# Altium schematic symbol library TOTUDU.SCHLIB: 34 symbols
Pins are listed as number, name and electrical type; pins without a type are passive.

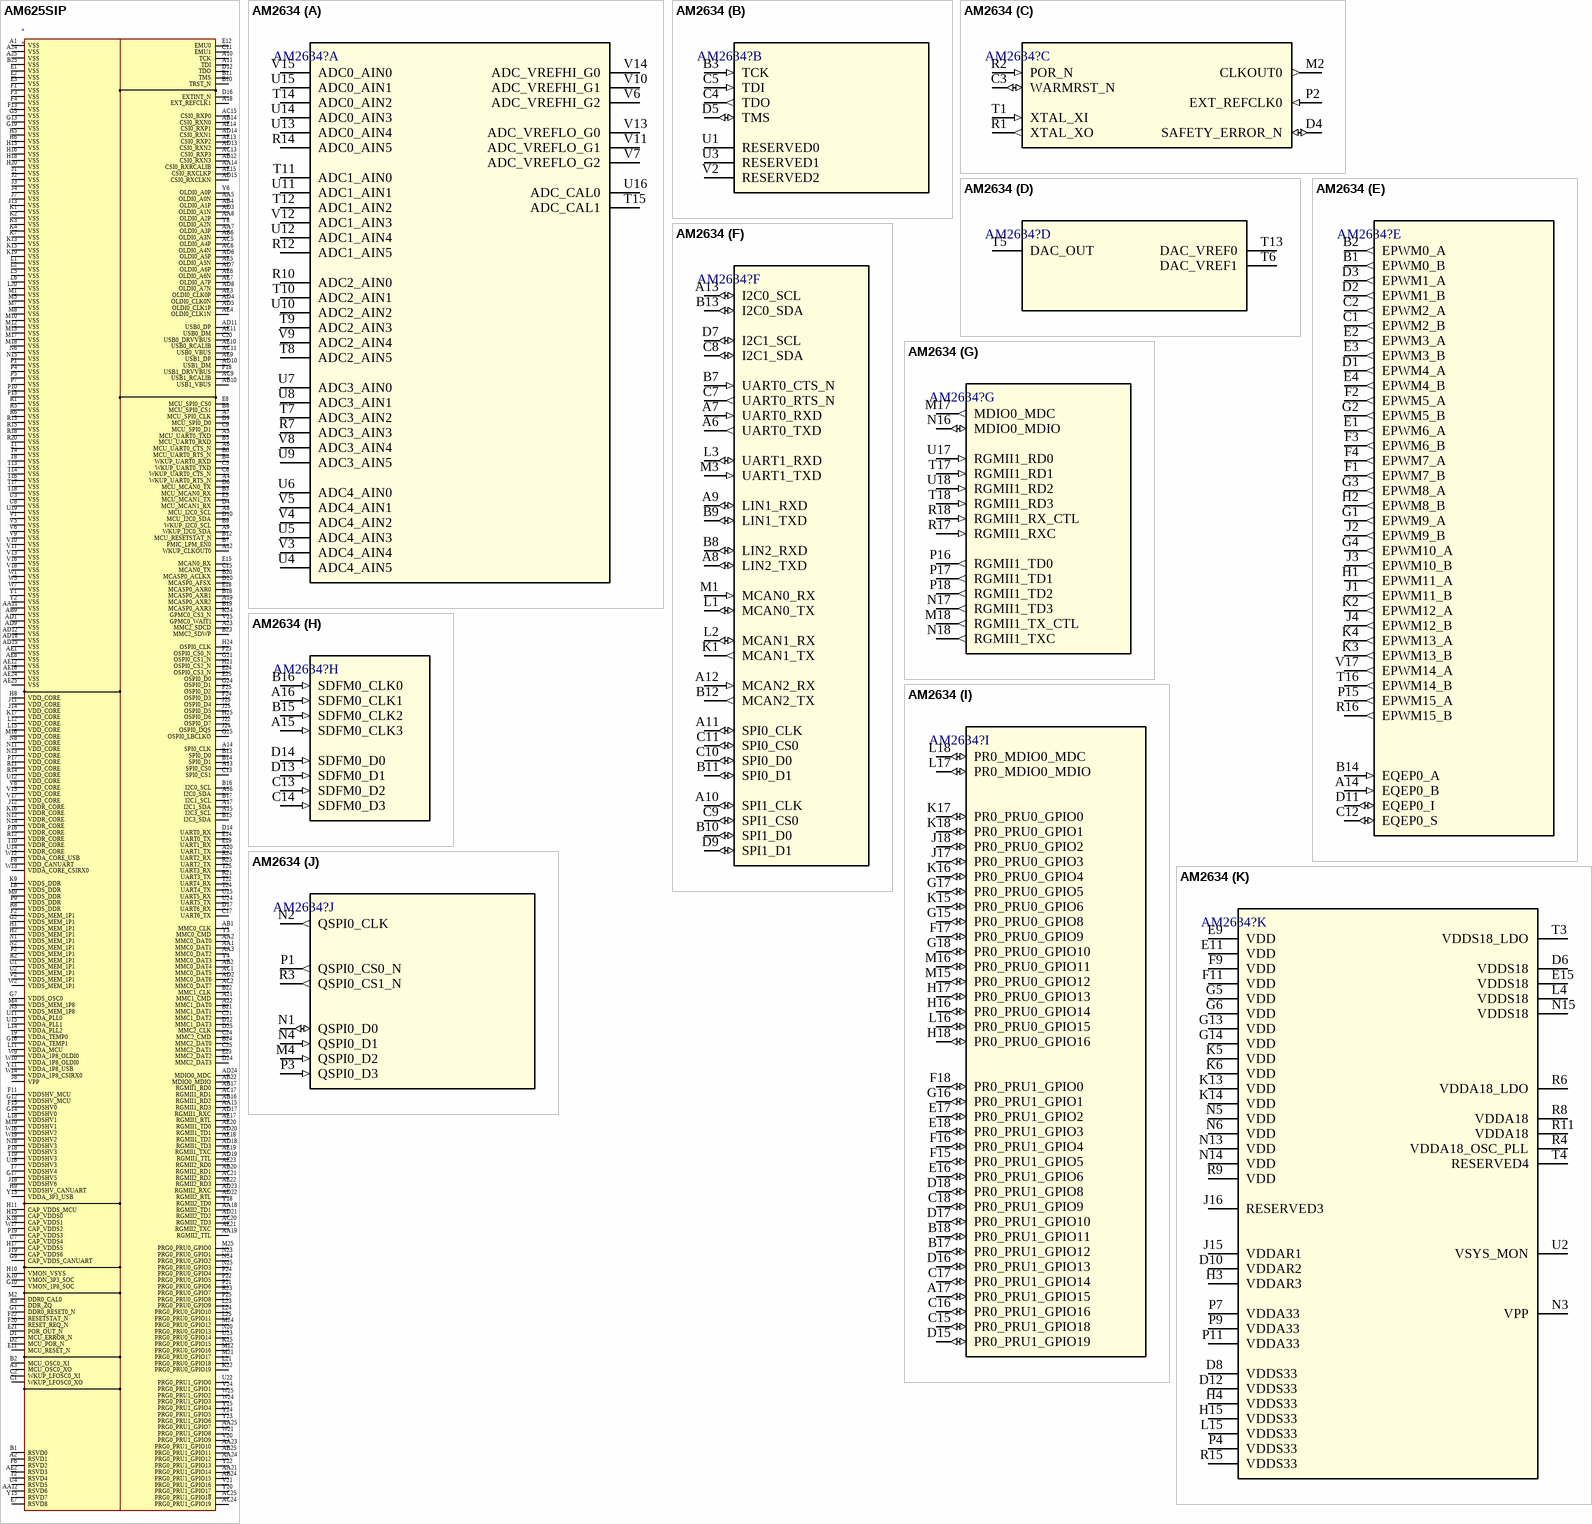
[diagram p0: symbols AM625SIP to AM2634]

## AM625SIP
designator *
footprint AM625SIP
pins: A1 VSS, A2 RSVD1, A3 MCU_OSC0_XO, A4 WKUP_UART0_RTS_N, A5 MCU_UART0_TXD, A6 MCU_UART0_CTS_N, A7 MCU_SPI0_CLK, A8 MCU_I2C0_SCL, A9 WKUP_I2C0_SDA, A10 TCK, A11 TDI, A12 WKUP_CLKOUT0, A13 SPI0_CS0, A14 SPI0_CLK, A15 I2C3_SCL, A16 I2C0_SDA, A17 I2C1_SDA, A18 EXT_REFCLK1, A19 MCASP0_AXR2, A20 UART1_TX, A21 MMC1_CMD, A22 MMC1_DAT0, A23 MMC2_SDCD, A24 VSS, A25 VSS, AA1 MMC0_DAT1, AA2 MMC0_DAT0, AA3 MMC0_DAT2, AA5 OLDI0_A0N, AA7 OLDI0_A3P, AA8 OLDI0_A2P, AA11 VSS, AA12 RSVD6, AA14 CSI0_RXRCALIB, AA15 RGMII1_RD3, AA18 RGMII2_TD1, AA19 RGMII2_TTL, AA21 PRG0_PRU1_GPIO14, AA23 PRG0_PRU1_GPIO10, AA24 PRG0_PRU1_GPIO12, AA25 PRG0_PRU1_GPIO7, AB1 MMC0_CLK, AB2 MMC0_DAT4, AB4 OLDI0_A1P, AB6 OLDI0_A3N, AB9 VSS, AB10 USB1_VBUS, AB12 CSI0_RXN3, AB14 CSI0_RXN0, AB16 RGMII1_RD2, AB17 RGMII1_RD0, AB20 RGMII2_RD1, AB22 MDIO0_MDIO, AB24 PRG0_PRU1_GPIO15, AB25 PRG0_PRU1_GPIO11, AC1 MMC0_DAT5, AC2 MMC0_DAT7, AC5 OLDI0_A4P, AC6 OLDI0_A4N, AC9 USB1_RCALIB, AC11 USB0_VBUS, AC13 CSI0_RXP3, AC15 CSI0_RXP0, AC17 RGMII1_RD1, AC20 RGMII2_TD3, AC21 RGMII2_RD2, AC24 PRG0_PRU1_GPIO19, AC25 PRG0_PRU1_GPIO1~{8}, AD1 VSS, AD2 MMC0_DAT6, AD3 OLDI0_A1N, AD4 OLDI0_CLK0N, AD5 OLDI0_CLK1P, AD6 OLDI0_A5P, AD7 OLDI0_A6P, AD8 OLDI0_A7N, AD9 VSS, AD10 USB1_DM, AD11 USB0_DP, AD12 VSS, AD13 CSI0_RXN2, AD14 CSI0_RXN1, AD15 CSI0_RXCLKN, AD16 VSS, AD17 RGMII1_RXC, AD18 RGMII1_TD3, AD19 RGMII1_TTL, AD20 RGMII1_TD1, AD21 RGMII2_TD2, AD22 RGMII2_RTL, AD23 RGMII2_RXC, AD24 MDIO0_MDC, AD25 VSS, AE1 VSS, AE2 RSVD3, AE3 OLDI0_CLK0P, AE4 OLDI0_CLK1N, AE5 OLDI0_A5N, AE6 OLDI0_A6N, AE7 OLDI0_A7P, AE8 VSS, AE9 USB1_DP, AE10 USB0_RCALIB, AE11 USB0_DM, AE12 VSS, AE13 CSI0_RXP2, AE14 CSI0_RXP1, AE15 CSI0_RXCLKP, AE16 VSS, AE17 RGMII1_RTL, AE18 RGMII1_TD2, AE19 RGMII1_TXC, AE20 RGMII1_TD0, AE21 RGMII2_TXC, AE22 RGMII2_RD3, AE23 RGMII2_RD0, AE24 VSS, AE25 VSS, B1 RSVD0, B2 MCU_OSC0_XI, B3 MCU_MCAN0_RX, B4 WKUP_UART0_RXD, B5 MCU_UART0_RXD, B6 MCU_UART0_RTS_N, B7 PMIC_LPM_EN0, B8 MCU_SPI0_CS1, B9 WKUP_I2C0_SCL, B10 TRST_N, B11 TMS, B12 MCU_RESETSTAT_N, B13 SPI0_D0, B14 SPI0_D1, B15 I2C3_SDA, B16 I2C0_SCL, B17 I2C1_SCL, B18 MCASP0_AXR1, B19 MCASP0_AXR3, B20 MCASP0_ACLKX, B21 MMC1_DAT1, B22 MMC1_CLK, B23 MMC2_SDWP, B24 MMC2_DAT0, B25 VSS, C1 WKUP_LFOSC0_XO, C2 WKUP_LFOSC0_XI, C5 WKUP_UART0_TXD, C6 WKUP_UART0_CTS_N, C9 MCU_SPI0_D1, C11 EMU1, C13 SPI0_CS1, C15 MCAN0_TX, C17 UART6_TX, C20 USB0_DRVVBUS, C21 MMC1_DAT2, C24 MMC2_CMD, C25 MMC2_DAT1, D1 MCU_ERROR_N, D2 MCU_POR_N, D4 MCU_MCAN1_RX, D6 MCU_MCAN0_TX, D9 MCU_SPI0_D0, D10 MCU_I2C0_SDA, D12 TDO, D14 UART0_RX, D16 EXTINT_N, D17 UART6_RX, D20 MCASP0_AFSX, D22 MMC1_DAT3, D24 MMC2_DAT3, D25 MMC2_CLK, E1 VSS, E2 VSS, E3 VSS, E5 MCU_MCAN1_TX, E7 RSVD8, E8 MCU_SPI0_CS0, E11 MCU_RESET_N, E12 EMU0, E14 UART0_TX, E15 MCAN0_RX, E18 MCASP0_AXR0, E19 UART1_RX, E21 POR_OUT_N, E23 MMC2_DAT2, E24 OSPI0_CS3_N, E25 OSPI0_D0, F1 VSS, F2 VDDS_MEM_1P1, F3 VSS, F4 VSS, F6 RSVD2, F8 VDD_CANUART, F11 VDDSHV_MCU, F13 VSS, F15 VDDSHV0, F18 USB1_DRVVBUS, F20 RESET_REQ_N, F22 RESETSTAT_N, F23 OSPI0_CS0_N, F24 OSPI0_D3, F25 OSPI0_D2, G1 DDR0_RESET0_N, G2 VDDS_MEM_1P1, G5 VSS, G7 VDDS_OSC0, G9 CAP_VDDS_CANUART, G10 VMON_1P8_SOC, G12 VDDSHV_MCU, G13 VSS, G14 VDDSHV0, G16 VDDA_TEMP1, G17 VDDSHV5, G19 VSS, G21 OSPI0_CS1_N, G24 OSPI0_D1, G25 OSPI0_LBCLKO, H1 VDDS_MEM_1P1, H2 VDDS_MEM_1P1, H5 VSS, H6 VSS, H8 VDD_CORE, H9 VDDSHV_CANUART, H10 VMON_VSYS, H11 CAP_VDDS_MCU, H13 VSS, H15 CAP_VDDS0, H16 VSS, H17 CAP_VDDS5, H18 VSS, H20 VSS, H21 OSPI0_CS2_N, H24 OSPI0_CLK, H25 OSPI0_D6, J1 VSS, J2 VSS, J3 VSS, J4 VSS, J7 VSS, J8 VPP, J11 VDD_CORE, J12 VDDR_CORE, J13 VSS, J14 VDD_CORE, J18 VDDSHV6, J19 CAP_VDDS6, J22 OSPI0_D7, J23 OSPI0_D4, J24 OSPI0_DQS, J25 OSPI0_D5, K1 VSS, K2 VSS, K3 VSS, K4 VSS, K7 VSS, K9 VDDS_DDR, K10 VMON_3P3_SOC, K13 VSS, K15 VSS, K16 VDDR_CORE, K17 VDD_CORE, K18 CAP_VDDS1, K19 VSS, K22 PRG0_PRU0_GPIO19, K24 GPMC0_CS3_N, K25 PRG0_PRU0_GPIO15, L1 VSS, L2 VSS, L5 VSS, L6 VSS, L8 VDDS_DDR, L11 VDDA_MCU, L12 VDD_CORE, L14 VDDA_PLL2, L15 VDD_CORE, L18 VDDSHV1, L20 VSS, L21 PRG0_PRU0_GPIO18, L23 PRG0_PRU0_GPIO9, L24 PRG0_PRU0_GPIO10, L25 PRG0_PRU0_GPIO11, M1 VSS, M2 DDR0_CAL0, M4 VDDS_MEM_1P8, M5 VSS, M7 VSS, M8 VSS, M9 VDDS_DDR, M10 VSS, M12 VSS, M13 VSS, M16 VDD_CORE, M17 VSS, M18 VSS, M19 VDDSHV1, M21 PRG0_PRU0_GPIO17, M22 PRG0_PRU0_GPIO16, M24 PRG0_PRU0_GPIO12, M25 PRG0_PRU0_GPIO0, N1 VDDS_MEM_1P1, N2 VDDS_MEM_1P1, N3 VDDS_MEM_1P8, N6 VSS, N8 VDD_CORE, N11 VDD_CORE, N12 VDDR_CORE, N13 VDD_CORE, N14 VDDR_CORE, N15 VSS, N18 VDDSHV3, N20 PRG0_PRU0_GPIO13, N23 PRG0_PRU0_GPIO1, N24 PRG0_PRU0_GPIO2, N25 PRG0_PRU0_GPIO3, P1 VSS, P2 VDDS_MEM_1P1, P4 VSS, P5 VSS, P7 VSS, P9 VDDS_DDR, P10 VSS, P13 VSS, P16 VDDR_CORE, P17 VDD_CORE, P18 VDDSHV3, P19 CAP_VDDS3, P21 PRG0_PRU0_GPIO6, P22 PRG0_PRU0_GPIO5, P24 PRG0_PRU0_GPIO4, P25 PRG0_PRU0_GPIO8, R1 VSS, R2 VDDS_MEM_1P1, R3 DDR_ZQ, R5 VSS, R6 VSS, R8 VDDS_DDR, R11 VDD_CORE, R12 VDDR_CORE, R13 VSS, R14 VDD_CORE, R15 VSS, R18 VSS, R20 VSS, R21 UART3_TX, R23 PRG0_PRU0_GPIO7, R24 UART2_RX, R25 UART2_TX, T1 VSS, T2 RSVD4, T4 VSS, T7 VDDSHV4, T8 VSS, T9 VDDA_TEMP0, T10 VDDR_CORE, T13 VSS, T14 VSS, T16 VSS, T17 VSS, T18 VSS, T19 VDDSHV3, T22 UART4_RX, T24 UART4_TX, T25 UART3_RX, U1 VDDS_MEM_1P1, U2 VDDS_MEM_1P1, U3 VSS, U4 RSVD5, U7 CAP_VDDS4, U8 VSS, U11 VDDA_PLL0, U12 VDD_CORE, U14 VDDR_CORE, U15 VDDA_PLL1, U18 VDDSHV3, U19 VSS, U22 PRG0_PRU1_GPIO0, U23 PRG0_PRU0_GPIO14, U24 UART5_TX, U25 UART5_RX, V1 VSS, V2 VDDS_MEM_1P1, V5 VSS, V6 VSS, V8 VDD_CORE, V9 VSS, V10 VSS, V11 VSS, V13 VSS, V15 VDD_CORE, V16 VSS, V17 VDD_CORE, V18 VSS, V20 PRG0_PRU1_GPIO9, V21 PRG0_PRU1_GPIO16, V24 PRG0_PRU1_GPIO1, V25 GPMC0_WAIT1, W1 VSS, W2 VDDS_MEM_1P1, W5 VSS, W7 VSS, W9 VDDA_1P8_OLDI0, W10 VDDA_1P8_OLDI0, W12 VDDA_CORE_USB, W13 VDDA_CORE_CSIRX0, W14 VDDA_1P8_CSIRX0, W16 VDDSHV2, W17 CAP_VDDS2, W19 VDDSHV2, W21 PRG0_PRU1_GPIO8, W24 PRG0_PRU1_GPIO3, W25 PRG0_PRU1_GPIO2, Y1 VSS, Y2 VSS, Y3 MMC0_CMD, Y4 MMC0_DAT3, Y6 OLDI0_A0P, Y8 OLDI0_A2N, Y11 VDDA_1P8_USB, Y13 VDDA_3P3_USB, Y15 RSVD7, Y18 RGMII2_TD0, Y20 PRG0_PRU1_GPIO17, Y22 PRG0_PRU1_GPIO13, Y23 PRG0_PRU1_GPIO6, Y24 PRG0_PRU1_GPIO5, Y25 PRG0_PRU1_GPIO4

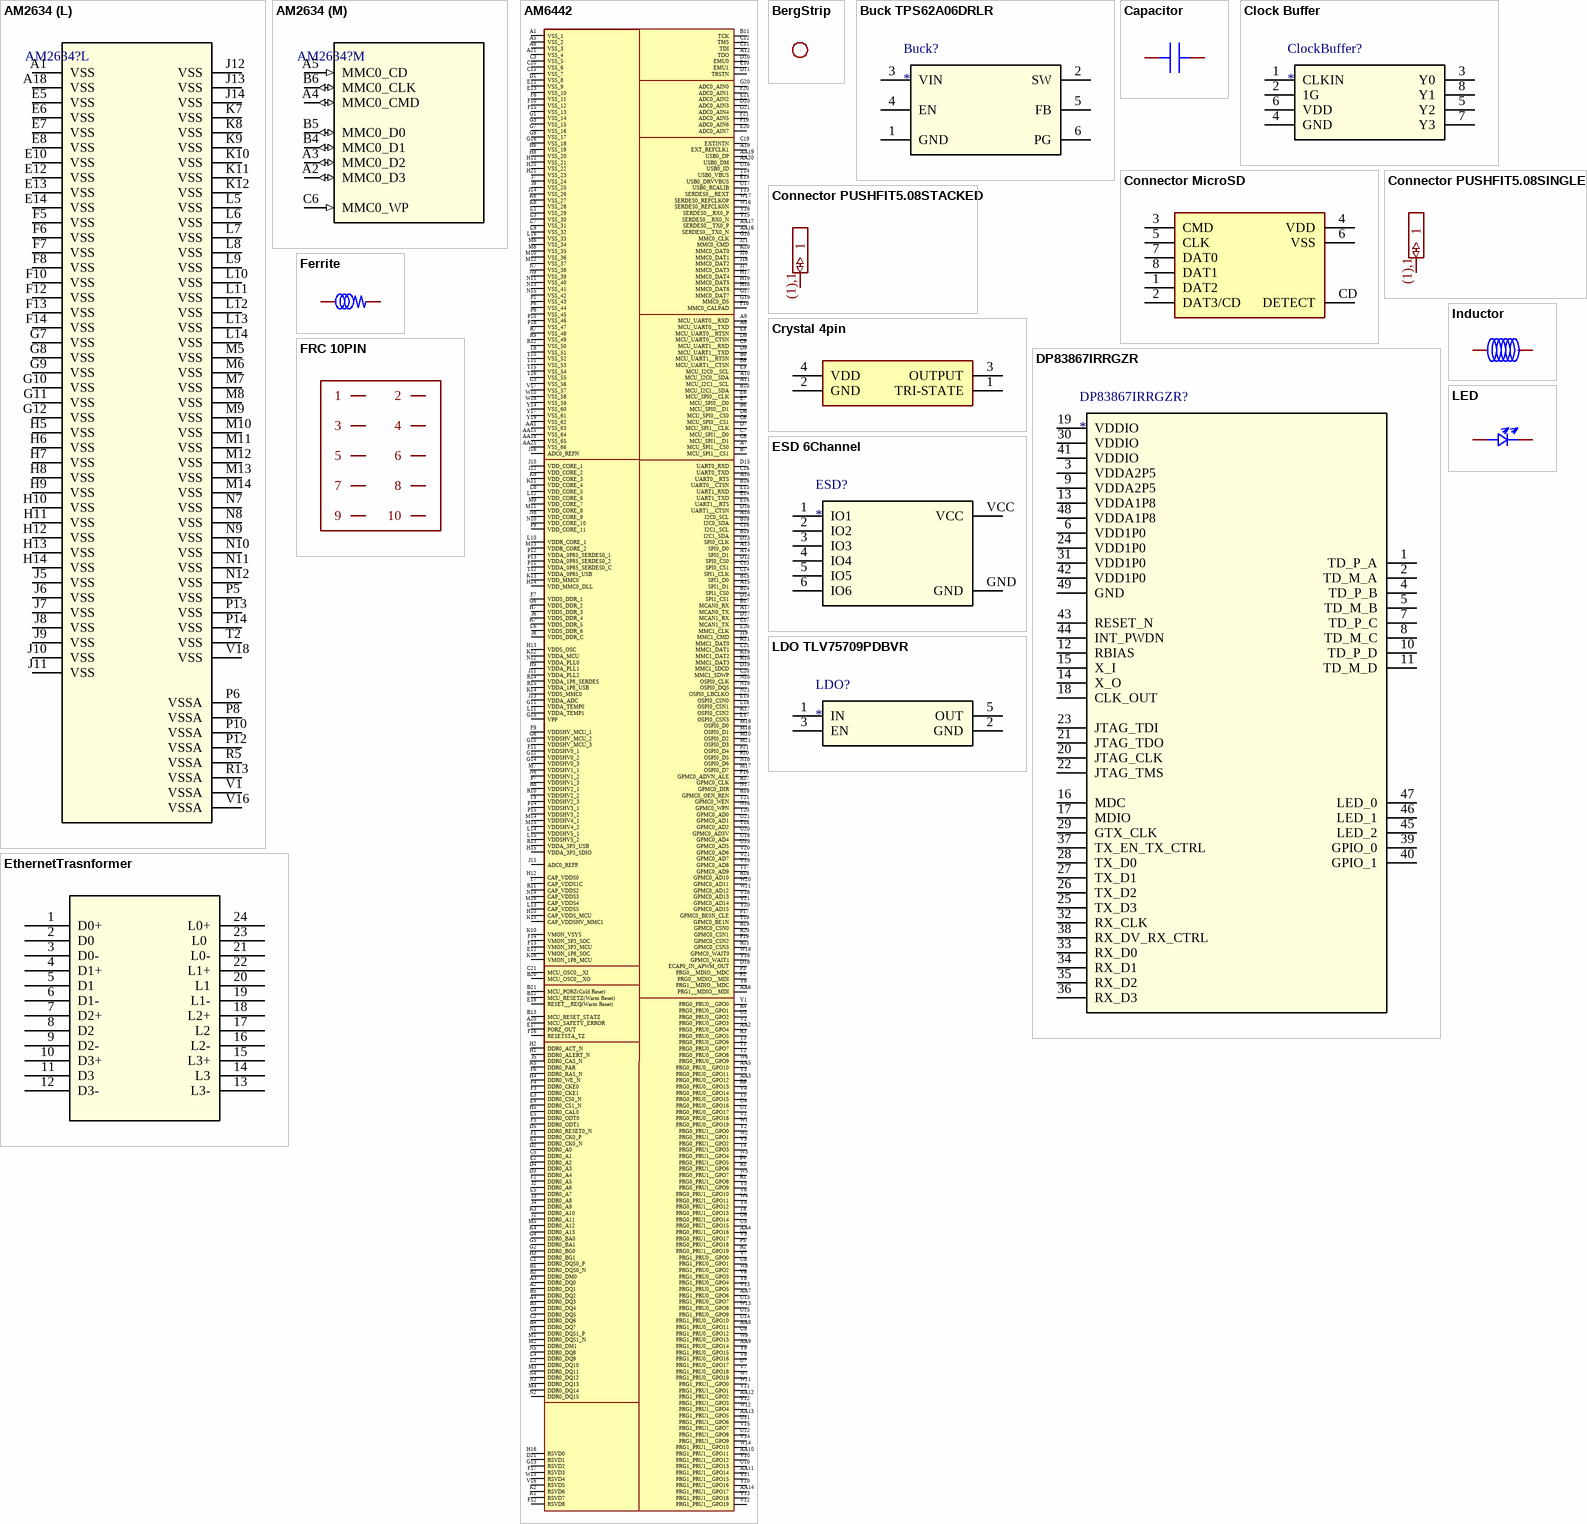
[diagram p1: symbols AM2634 to LED]

## AM2634
designator AM2634?
Mfr_Name: Texas Instruments; TYPE: TYPE; RefDes: RefDes
footprint AM2634
part A pins: R7 ADC3_AIN3, R10 ADC2_AIN0, R12 ADC1_AIN5, R14 ADC0_AIN5, T7 ADC3_AIN2, T8 ADC2_AIN5, T9 ADC2_AIN3, T10 ADC2_AIN1, T11 ADC1_AIN0, T12 ADC1_AIN2, T14 ADC0_AIN2, T15 ADC_CAL1, U4 ADC4_AIN5, U5 ADC4_AIN3, U6 ADC4_AIN0, U7 ADC3_AIN0, U8 ADC3_AIN1, U9 ADC3_AIN5, U10 ADC2_AIN2, U11 ADC1_AIN1, U12 ADC1_AIN4, U13 ADC0_AIN4, U14 ADC0_AIN3, U15 ADC0_AIN1, U16 ADC_CAL0, V3 ADC4_AIN4, V4 ADC4_AIN2, V5 ADC4_AIN1, V6 ADC_VREFHI_G2, V7 ADC_VREFLO_G2, V8 ADC3_AIN4, V9 ADC2_AIN4, V10 ADC_VREFHI_G1, V11 ADC_VREFLO_G1, V12 ADC1_AIN3, V13 ADC_VREFLO_G0, V14 ADC_VREFHI_G0, V15 ADC0_AIN0
part B pins: B3 TCK (in), C4 TDO (out), C5 TDI (in), D5 TMS (io), U1 RESERVED0, U3 RESERVED1, V2 RESERVED2
part C pins: C3 WARMRST_N (io), D4 SAFETY_ERROR_N (io), M2 CLKOUT0 (out), P2 EXT_REFCLK0 (in), R1 XTAL_XO (out), R2 POR_N (in), T1 XTAL_XI (in)
part D pins: T5 DAC_OUT, T6 DAC_VREF1, T13 DAC_VREF0
part E pins: A14 EQEP0_B (in), B1 EPWM0_B (out), B2 EPWM0_A (out), B14 EQEP0_A (in), C1 EPWM2_B (out), C2 EPWM2_A (out), C12 EQEP0_S (io), D1 EPWM4_A (out), D2 EPWM1_B (out), D3 EPWM1_A (out), D11 EQEP0_I (io), E1 EPWM6_A (out), E2 EPWM3_A (out), E3 EPWM3_B (out), E4 EPWM4_B (out), F1 EPWM7_B (out), F2 EPWM5_A (out), F3 EPWM6_B (out), F4 EPWM7_A (out), G1 EPWM9_A (out), G2 EPWM5_B (out), G3 EPWM8_A (out), G4 EPWM10_A (out), H1 EPWM11_A (out), H2 EPWM8_B (out), J1 EPWM11_B (out), J2 EPWM9_B (out), J3 EPWM10_B (out), J4 EPWM12_B (out), K2 EPWM12_A (out), K3 EPWM13_B (out), K4 EPWM13_A (out), P15 EPWM15_A (out), R16 EPWM15_B (out), T16 EPWM14_B (out), V17 EPWM14_A (out)
part F pins: A6 UART0_TXD (out), A7 UART0_RXD (in), A8 LIN2_TXD (io), A9 LIN1_RXD (io), A10 SPI1_CLK (io), A11 SPI0_CLK (io), A12 MCAN2_RX (in), A13 I2C0_SCL (io), B7 UART0_CTS_N (in), B8 LIN2_RXD (io), B9 LIN1_TXD (io), B10 SPI1_D0 (io), B11 SPI0_D1 (io), B12 MCAN2_TX (out), B13 I2C0_SDA (io), C7 UART0_RTS_N (out), C8 I2C1_SDA (io), C9 SPI1_CS0 (io), C10 SPI0_D0 (io), C11 SPI0_CS0 (io), D7 I2C1_SCL (io), D9 SPI1_D1 (io), K1 MCAN1_TX (out), L1 MCAN0_TX (io), L2 MCAN1_RX (io), L3 UART1_RXD (io), M1 MCAN0_RX (in), M3 UART1_TXD (in)
part G pins: M17 MDIO0_MDC (out), M18 RGMII1_TX_CTL (out), N16 MDIO0_MDIO (io), N17 RGMII1_TD3 (out), N18 RGMII1_TXC (out), P16 RGMII1_TD0 (out), P17 RGMII1_TD1 (out), P18 RGMII1_TD2 (out), R17 RGMII1_RXC (in), R18 RGMII1_RX_CTL (in), T17 RGMII1_RD1 (in), T18 RGMII1_RD3 (in), U17 RGMII1_RD0 (in), U18 RGMII1_RD2 (in)
part H pins: A15 SDFM0_CLK3 (in), A16 SDFM0_CLK1 (in), B15 SDFM0_CLK2 (in), B16 SDFM0_CLK0 (in), C13 SDFM0_D2 (in), C14 SDFM0_D3 (in), D13 SDFM0_D1 (in), D14 SDFM0_D0 (in)
part I pins: A17 PR0_PRU1_GPIO15 (io), B17 PR0_PRU1_GPIO12 (io), B18 PR0_PRU1_GPIO11 (io), C15 PR0_PRU1_GPIO18 (io), C16 PR0_PRU1_GPIO16 (io), C17 PR0_PRU1_GPIO14 (io), C18 PR0_PRU1_GPIO9 (io), D15 PR0_PRU1_GPIO19 (io), D16 PR0_PRU1_GPIO13 (io), D17 PR0_PRU1_GPIO10 (io), D18 PR0_PRU1_GPIO8 (io), E16 PR0_PRU1_GPIO6 (io), E17 PR0_PRU1_GPIO2 (io), E18 PR0_PRU1_GPIO3 (io), F15 PR0_PRU1_GPIO5 (io), F16 PR0_PRU1_GPIO4 (io), F17 PR0_PRU0_GPIO9 (io), F18 PR0_PRU1_GPIO0 (io), G15 PR0_PRU0_GPIO8 (io), G16 PR0_PRU1_GPIO1 (io), G17 PR0_PRU0_GPIO5 (io), G18 PR0_PRU0_GPIO10 (io), H16 PR0_PRU0_GPIO14 (io), H17 PR0_PRU0_GPIO13 (io), H18 PR0_PRU0_GPIO16 (io), J17 PR0_PRU0_GPIO3 (io), J18 PR0_PRU0_GPIO2 (io), K15 PR0_PRU0_GPIO6 (io), K16 PR0_PRU0_GPIO4 (io), K17 PR0_PRU0_GPIO0 (io), K18 PR0_PRU0_GPIO1 (io), L16 PR0_PRU0_GPIO15 (io), L17 PR0_MDIO0_MDIO (io), L18 PR0_MDIO0_MDC (io), M15 PR0_PRU0_GPIO12 (io), M16 PR0_PRU0_GPIO11 (io)
part J pins: M4 QSPI0_D2 (in), N1 QSPI0_D0 (io), N2 QSPI0_CLK (out), N4 QSPI0_D1 (in), P1 QSPI0_CS0_N (out), P3 QSPI0_D3 (in), R3 QSPI0_CS1_N (out)
part K pins: D6 VDDS18 (power), D8 VDDS33 (power), D10 VDDAR2 (power), D12 VDDS33 (power), E9 VDD (power), E11 VDD (power), E15 VDDS18 (power), F9 VDD (power), F11 VDD (power), G5 VDD (power), G6 VDD (power), G13 VDD (power), G14 VDD (power), H3 VDDAR3 (power), H4 VDDS33 (power), H15 VDDS33 (power), J15 VDDAR1 (power), J16 RESERVED3, K5 VDD (power), K6 VDD (power), K13 VDD (power), K14 VDD (power), L4 VDDS18 (power), L15 VDDS33 (power), N3 VPP (power), N5 VDD (power), N6 VDD (power), N13 VDD (power), N14 VDD (power), N15 VDDS18 (power), P4 VDDS33 (power), P7 VDDA33 (power), P9 VDDA33 (power), P11 VDDA33 (power), R4 VDDA18_OSC_PLL (power), R6 VDDA18_LDO (power), R8 VDDA18 (power), R9 VDD (power), R11 VDDA18 (power), R15 VDDS33 (power), T3 VDDS18_LDO (power), T4 RESERVED4, U2 VSYS_MON (power)
part L pins: A1 VSS (power), A18 VSS (power), E5 VSS (power), E6 VSS (power), E7 VSS (power), E8 VSS (power), E10 VSS (power), E12 VSS (power), E13 VSS (power), E14 VSS (power), F5 VSS (power), F6 VSS (power), F7 VSS (power), F8 VSS (power), F10 VSS (power), F12 VSS (power), F13 VSS (power), F14 VSS (power), G7 VSS (power), G8 VSS (power), G9 VSS (power), G10 VSS (power), G11 VSS (power), G12 VSS (power), H5 VSS (power), H6 VSS (power), H7 VSS (power), H8 VSS (power), H9 VSS (power), H10 VSS (power), H11 VSS (power), H12 VSS (power), H13 VSS (power), H14 VSS (power), J5 VSS (power), J6 VSS (power), J7 VSS (power), J8 VSS (power), J9 VSS (power), J10 VSS (power), J11 VSS (power), J12 VSS (power), J13 VSS (power), J14 VSS (power), K7 VSS (power), K8 VSS (power), K9 VSS (power), K10 VSS (power), K11 VSS (power), K12 VSS (power), L5 VSS (power), L6 VSS (power), L7 VSS (power), L8 VSS (power), L9 VSS (power), L10 VSS (power), L11 VSS (power), L12 VSS (power), L13 VSS (power), L14 VSS (power), M5 VSS (power), M6 VSS (power), M7 VSS (power), M8 VSS (power), M9 VSS (power), M10 VSS (power), M11 VSS (power), M12 VSS (power), M13 VSS (power), M14 VSS (power), N7 VSS (power), N8 VSS (power), N9 VSS (power), N10 VSS (power), N11 VSS (power), N12 VSS (power), P5 VSS (power), P6 VSSA (power), P8 VSSA (power), P10 VSSA (power), P12 VSSA (power), P13 VSS (power), P14 VSS (power), R5 VSSA (power), R13 VSSA (power), T2 VSS (power), V1 VSSA (power), V16 VSSA (power), V18 VSS (power)
part M pins: A2 MMC0_D3 (io), A3 MMC0_D2 (io), A4 MMC0_CMD (io), A5 MMC0_CD (in), B4 MMC0_D1 (io), B5 MMC0_D0 (io), B6 MMC0_CLK (io), C6 MMC0_WP (in)

## AM6442
designator AM6442?, comment ARM Cortex-A53, ARM Cortex-M5F, ARM Cortex-R5F Microprocessor IC Sitara 7 Core, 64-Bit 1GHz 441-FCBGA (17.2x17.2)   Source:  Datasheet  (value not drawn)
MANUFACTURER_NAME: Texas Instruments; GateName_1: G$1; SymbolName_1: AM6442BSDGHAALV; LibraryName: TOTUDU; DeviceSetName: AM6442BSDGHAALV; Package: BGA441C80P21X21_1720X1720X265; HEIGHT: 2.652mm; MANUFACTURER_PART_NUMBER: AM6442BSDGHAALV; MOUSER_PRICE-STOCK: https://www.mouser.co.uk/ProductDetail/Texas-Instruments/AM6442BSDGHAALV?qs=9vOqFld9vZW%2FXHhHYd31hA%3D%3D
footprint AM6442
pins: A1 VSS_1, A2 DDR0_DQ1, A3 DDR0_DQ0, A4 DDR0_DQ3, A5 VSS_2, A6 VSS_3, A7 MCU_SPI1__CS0, A8 MCU_UART0__TXD, A9 MCU_UART0__RXD, A10 MCU_I2C0__SDA, A11 MCU_I2C1__SCL, A12 TDO, A13 SPI0_D0, A14 SPI0_D1, A15 SPI1_D1, A16 UART0__RTS, A17 MCAN0_TX, A18 I2C0_SCL, A19 EXT_REFCLK1, A20 MCU_SAFETY_ERROR, A21 VSS_4, AA1 VSS_63, AA2 PRG0_PRU0__GPO4, AA3 PRG0_PRU0__GPO12, AA4 PRG0_PRU1__GPO16, AA5 PRG0_PRU0__GPO10, AA6 PRG1__MDIO__MDI, AA7 PRG1_PRU0__GPO6, AA8 PRG1_PRU0__GPO11, AA9 PRG1_PRU0__GPO14, AA10 PRG1_PRU1__GPO11, AA11 PRG1_PRU1__GPO14, AA12 PRG1_PRU1__GPO2, AA13 PRG1_PRU1__GPO5, AA14 PRG1_PRU1__GPO17, AA15 VSS_64, AA16 SERDES0__TX0_N, AA17 SERDES0__TX0_P, AA18 VSS_65, AA19 USB0_DP, AA20 USB0_DM, AA21 VSS_66, B1 DDR0_DQS0_N, B2 DDR0_DM0, B3 DDR0_DQ4, B4 DDR0_DQ7, B5 DDR0_DQ2, B6 MCU_SPI0__D1, B7 MCU_SPI1__CS1, B8 MCU_UART1__CTSN, B9 MCU_UART1__RTSN, B10 MCU_I2C1__SDA, B11 TCK, B12 MCU_RESETZ(Warm Reset), B13 MCU_RESET_STATZ, B14 SPI1_CS0, B15 SPI1_D0, B16 UART0__CTSN, B17 MCAN0_RX, B18 I2C0_SDA, B19 I2C1_SDA, B20 MCU_OSC0__XO, B21 MCU_PORZ(Cold Reset), C1 DDR0_DQS0_P, C2 DDR0_DQ6, C3 VSS_5, C4 DDR0_DQ5, C5 DDR0_A1, C6 MCU_SPI0__CS1, C7 MCU_SPI1__D0, C8 MCU_SPI1__D1, C9 MCU_UART1__RXD, C10 VSS_6, C11 TDI, C12 TMS, C13 SPI0_CS1, C14 SPI1_CLK, C15 VSS_7, C16 UART0_TXD, C17 MCAN1_TX, C18 I2C1_SCL, C19 EXTINTN, C20 MMC1_SDWP, C21 MCU_OSC0__XI, D1 VSS_8, D2 DDR0_A0, D3 DDR0_A4, D4 DDR0_A3, D5 DDR0_RESET0_N, D6 MCU_SPI0__CS0, D7 MCU_SPI1__CLK, D8 MCU_UART0__CTSN, D9 MCU_UART1__TXD, D10 EMU0, D11 TRSTN, D12 SPI0_CS0, D13 SPI0_CLK, D14 SPI1_CS1, D15 UART0_RXD, D16 UART1__CTSN, D17 MCAN1_RX, D18 ECAP0_IN_APWM_OUT, D19 MMC1_SDCD, D20 ADC0_AIN3, D21 RSVD1, E1 DDR0_CK0_N, E2 DDR0_A2, E3 DDR0_CS0_N, E4 DDR0_CS1_N, E5 DDR0_ODT0, E6 MCU_SPI0__CLK, E7 MCU_SPI0__D0, E8 MCU_UART0__RTSN, E9 MCU_I2C0__SCL, E10 EMU1, E11 VSS_9, E12 VMON_1P8_SOC, E13 VSS_10, E14 UART1_TXD, E15 UART1_RXD, E16 UART1__RTS, E17 PORZ_OUT, E18 RESET__REQ(Warm Reset), E19 USB0_DRVVBUS, E20 ADC0_AIN7, E21 ADC0_AIN2, F1 DDR0_CK0_P, F2 DDR0_A5, F3 DDR0_CKE1, F4 DDR0_CKE0, F5 DDR0_ODT1, F6 DDR0_RAS_N, F7 VDDS_DDR_1, F8 VSS_11, F9 VDDSHV_MCU_1, F10 VSS_12, F11 VDDSHV0_1, F12 RSVD8, F13 VMON_3P3_MCU, F14 VMON_3P3_SOC, F15 VSS_13, F16 RESETSTA_TZ, F17 RSVD3, F18 MMC0_CALPAD, F19 ADC0_AIN6, F20 ADC0_AIN1, F21 ADC0_AIN5, G1 VSS_14, G2 DDR0_BG0, G3 VSS_15, G4 DDR0_BA0, G5 DDR0_BA1, G6 VDDS_DDR_2, G7 VSS_16, G8 VDDSHV_MCU_2, G9 VSS_17, G10 VDDSHV_MCU_3, G11 VDDA_TEMP0, G12 VDDSHV0_2, G13 RSVD2, G14 VDDSHV0_3, G15 VPP, G16 VSS_18, G17 MMC0_DAT7, G18 MMC0_CLK, G19 MMC0_DS, G20 ADC0_AIN0, G21 ADC0_AIN4, H1 DDR0_ALERT_N, H2 DDR0_ACT_N, H3 DDR0_BG1, H4 DDR0_WE_N, H5 DDR0_CAL0, H6 VSS_19, H7 VDDS_DDR_3, H8 VSS_20, H9 VDDA_PLL1, H10 CAP_VDDS_MCU, H11 VSS_21, H12 CAP_VDDS0, H13 VDDS_OSC, H14 VDD_MMC0_DLL, H15 VDDA_3P3_SDIO, H16 RSVD0, H17 MMC0_DAT4, H18 MMC0_DAT6, H19 MMC0_DAT5, H20 VSS_22, H21 VSS_23, J1 DDR0_A11, J2 DDR0_A6, J3 DDR0_A8, J4 DDR0_A9, J5 DDR0_CAS_N, J6 VDDS_DDR_4, J7 VSS_24, J8 VDDS_DDR_C, J9 VSS_25, J10 VDD_CORE_1, J11 VDDA_PLL2, J12 VDD_CORE_2, J13 VDDA_ADC, J14 VSS_26, J15 ADC0_REFP, J16 ADC0_REFN, J17 MMC0_DAT3, J18 MMC0_DAT2, J19 MMC1_CMD, J20 MMC0_DAT1, J21 MMC0_CMD, K1 RSVD7, K2 RSVD6, K3 DDR0_A10, K4 DDR0_A13, K5 DDR0_PAR, K6 VSS_27, K7 VDDS_DDR_5, K8 VSS_28, K9 VDD_CORE_3, K10 VMON_VSYS, K11 VDD_CORE_4, K12 VDDA_MCU, K13 VDD_MMC0, K14 VDDS_MMC0, K15 CAP_VDDSHV_MMC1, K16 VMON_1P8_MCU, K17 OSPI0_CSN2, K18 MMC1_DAT3, K19 MMC1_DAT2, K20 MMC0_DAT0, K21 MMC1_DAT0, L1 VSS_29, L2 DDR0_DQ10, L3 VSS_30, L4 DDR0_DQ9, L5 DDR0_A7, L6 VDDS_DDR_6, L7 VSS_31, L8 VDD_CORE_5, L9 VSS_32, L10 VDDR_CORE_1, L11 VDDA_TEMP1, L12 VDD_CORE_6, L13 CAP_VDDS5, L14 VDDSHV5_1, L15 VDDSHV5_2, L16 VSS_33, L17 OSPI0_CSN3, L18 OSPI0_CSN1, L19 OSPI0_CSN0, L20 MMC1_CLK, L21 MMC1_DAT1, M1 DDR0_DQS1_N, M2 DDR0_DM1, M3 DDR0_DQ11, M4 DDR0_DQ14, M5 DDR0_A12, M6 VSS_34, M7 VDDSHV1_1, M8 VSS_35, M9 VDD_CORE_7, M10 VSS_36, M11 VDD_CORE_8, M12 VSS_37, M13 VDDR_CORE_2, M14 VDDSHV4_1, M15 VDDSHV4_2, M16 CAP_VDDS4, M17 OSPI0_D7, M18 OSPI0_D1, M19 OSPI0_D0, M20 OSPI0_D2, M21 OSPI0_D3, N1 DDR0_DQS1_P, N2 DDR0_DQ15, N3 DDR0_DQ13, N4 DDR0_DQ12, N5 DDR0_DQ8, N6 VDDSHV1_2, N7 VSS_38, N8 VDD_CORE_9, N9 VSS_39, N10 VDD_CORE_10, N11 VSS_40, N12 VDDA_PLL0, N13 VSS_41, N14 CAP_VDDS3, N15 VSS_42, N16 GPMC0_WPN, N17 GPMC0_DIR, N18 OSPI0_D6, N19 OSPI0_DQS, N20 OSPI0_CLK, N21 OSPI0_LBCLKO, P1 VSS_43, P2 PRG0__MDIO__MDI, P3 PRG0__MDIO__MDC, P4 PRG0_PRU1__GPO5, P5 PRG0_PRU1__GPO18, P6 VSS_44, P7 VDDSHV1_3, P8 VSS_45, P9 VDD_CORE_11, P10 VSS_46, P11 VDDA_0P85_SERDES0_C, P12 VDDA_0P85_SERDES0_1, P13 VDDA_0P85_SERDES0_2, P14 VDDSHV3_1, P15 VDDSHV3_2, P16 GPMC0_ADVN_ALE, P17 GPMC0_BE0N_CLE, P18 VSS_47, P19 GPMC0_CSN2, P20 OSPI0_D5, P21 OSPI0_D4, R1 PRG0_PRU1__GPO8, R2 PRG0_PRU1__GPO19, R3 PRG0_PRU0__GPO5, R4 PRG0_PRU0__GPO1, R5 PRG0_PRU1__GPO6, R6 PRG0_PRU0__GPO13, R7 VSS_48, R8 VDDSHV2_1, R9 VSS_49, R10 VDDSHV2_2, R11 CAP_VDDS2, R12 VSS_50, R13 VDDA_3P3_USB, R14 VDDA_1P8_SERDES, R15 VDDA_1P8_USB, R16 GPMC0_AD10, R17 GPMC0_CLK, R18 GPMC0_OEN_REN, R19 GPMC0_CSN0, R20 GPMC0_CSN1, R21 GPMC0_CSN3, T1 PRG0_PRU0__GPO7, T2 PRG0_PRU0__GPO8, T3 PRG0_PRU0__GPO6, T4 PRG0_PRU1__GPO3, T5 PRG0_PRU0__GPO15, T6 PRG0_PRU1__GPO13, T7 CAP_VDDS1C, T8 VSS_51, T9 VDDSHV2_3, T10 VSS_52, T11 VSS_53, T12 VDDA_0P85_USB, T13 SERDES0__REXT, T14 USB0_VBUS, T15 VSS_54, T16 VSS_55, T17 GPMC0_AD9, T18 GPMC0_AD2, T19 GPMC0_BE1N, T20 GPMC0_AD0, T21 GPMC0_WEN, U1 PRG0_PRU0__GPO17, U2 PRG0_PRU0__GPO2, U3 VSS_56, U4 PRG0_PRU0__GPO16, U5 PRG0_PRU1__GPO15, U6 PRG0_PRU1__GPO14, U7 PRG1_PRU0__GPO17, U8 PRG1_PRU0__GPO1, U9 PRG1_PRU0__GPO12, U10 PRG1_PRU1__GPO13, U11 PRG1_PRU1__GPO6, U12 PRG1_PRU1__GPO8, U13 PRG1_PRU0__GPO7, U14 PRG1_PRU0__GPO10, U15 PRG1_PRU0__GPO9, U16 USB0_ID, U17 USB0_RCALIB, U18 GPMC0_AD4, U19 GPMC0_AD5, U20 GPMC0_AD3V, U21 GPMC0_AD1, V1 PRG0_PRU0__GPO18, V2 PRG0_PRU0__GPO3, V3 PRG0_PRU1__GPO2, V4 PRG0_PRU0__GPO14, V5 PRG0_PRU1__GPO17, V6 PRG0_PRU1__GPO10, V7 PRG1_PRU0__GPO18, V8 PRG1_PRU0__GPO3, V9 PRG1_PRU0__GPO16, V10 PRG1_PRU1__GPO12, V11 PRG1_PRU1__GPO1, V12 PRG1_PRU1__GPO19, V13 PRG1_PRU0__GPO5, V14 PRG1_PRU1__GPO9, V15 PRG1_PRU1__GPO7, V16 RSVD5, V17 VSS_57, V18 GPMC0_AD13, V19 GPMC0_AD8, V20 GPMC0_AD6, V21 GPMC0_AD7, W1 PRG0_PRU0__GPO19, W2 PRG0_PRU1__GPO1, W3 PRG0_PRU1__GPO4, W4 PRG0_PRU1__GPO11, W5 PRG0_PRU1__GPO7, W6 PRG0_PRU0__GPO9, W7 PRG1_PRU0__GPO19, W8 PRG1_PRU0__GPO2, W9 PRG1_PRU0__GPO13, W10 VSS_58, W11 PRG1_PRU1__GPO0, W12 PRG1_PRU1__GPO4, W13 PRG1_PRU0__GPO8, W14 PRG1_PRU1__GPO10, W15 RSVD4, W16 SERDES0_REFCLK0N, W17 SERDES0_REFCLKOP, W18 VSS_59, W19 GPMC0_WAIT0, W20 GPMC0_AD11, W21 GPMC0_AD12, Y1 PRG0_PRU0__GPO0, Y2 PRG0_PRU1__GPO0, Y3 PRG0_PRU0__GPO11, Y4 PRG0_PRU1__GPO12, Y5 PRG0_PRU1__GPO9, Y6 PRG1__MDIO__MDC, Y7 PRG1_PRU0__GPO0, Y8 PRG1_PRU0__GPO4, Y9 PRG1_PRU0__GPO15, Y10 PRG1_PRU1__GPO16, Y11 PRG1_PRU1__GPO15, Y12 PRG1_PRU1__GPO3, Y13 PRG1_PRU1__GPO18, Y14 VSS_60, Y15 SERDES0__RX0_N, Y16 SERDES0__RX0_P, Y17 VSS_61, Y18 GPMC0_WAIT1, Y19 VSS_62, Y20 GPMC0_AD15, Y21 GPMC0_AD14

## BergStrip
designator BergStrip?  (value not drawn)
footprint BergStrip
footprint BergStrip 2.54mm
pins: 1 Pin

## Buck TPS62A06DRLR
designator Buck?
Mfr_Name: Texas Instruments; TYPE: TYPE; RefDes: RefDes
footprint Buck TPS62A06DRLR
pins: 1 GND, 2 SW, 3 VIN, 4 EN, 5 FB, 6 PG

## Capacitor
designator C?
footprint Capacitor 2012(0805)
footprint Capacitor 1608(0603)
footprint Capacitor 1005(0402)
footprint Capacitor 6.3x7.7
pins: 1, 2

## Clock Buffer
designator ClockBuffer?
Mfr_Name: Texas Instruments; TYPE: TYPE; RefDes: RefDes
footprint ClockBuffer LMK1C1104
pins: 1 CLKIN, 2 1G, 3 Y0, 4 GND, 5 Y2, 6 VDD, 7 Y3, 8 Y1

## Connector MicroSD
designator CONSD?
Manufacturer_Name: Hirose; Manufacturer_Part_Number: DM3AT-SF-PEJM5(40); Geometry.Height: 1.83mm; Mouser Part Number: 798-DM3AT-SF-PEJM540; Mouser Price/Stock: https://www.mouser.co.uk/ProductDetail/Hirose-Connector/DM3AT-SF-PEJM540?qs=0WLLhGLuJYzPvbo0KPPEoQ%3D%3D; Datasheet Link: https://componentsearchengine.com/Datasheets/2/DM3AT-SF-PEJM5(40).pdf
footprint MicroSD Connector
footprint MicroSD Connector MEM2085
pins: 1 DAT2, 2 DAT3/CD, 3 CMD, 4 VDD, 5 CLK, 6 VSS, 7 DAT0, 8 DAT1, CD DETECT

## Connector PUSHFIT5.08SINGLE
designator Connector?
GateName_1: G$1; SymbolName_1: TERMINAL1X1; DeviceName: SINGLE; DeviceSetName: PUSHFIT5.08; LibraryName: TOTUDU; Package: PUSHFITSINGLE5.08
footprint PUSHFITSINGLE5.08
pins: (1),1 1 (io)

## Connector PUSHFIT5.08STACKED
designator Connector?
GateName_1: G$1; SymbolName_1: TERMINAL1X1; DeviceName: STACKED; DeviceSetName: PUSHFIT5.08; LibraryName: TOTUDU; Package: PUSHFITSTACKED5.08
footprint PUSHFITSTACKED5.08
pins: (1),1 1 (io)

## Crystal 4pin
designator X?
Manufacturer_Name: ECS; Manufacturer_Part_Number: ECS-2520MV-250-CN-TR; Geometry.Height: 0.9mm; Mouser Part Number: 520-2520MV-250-CN-T; Mouser Price/Stock: https://www.mouser.co.uk/ProductDetail/ECS/ECS-2520MV-250-CN-TR?qs=fAHHVMwC%252BbiTva9uv8VI%2Fw%3D%3D; Datasheet Link: https://www.arrow.com/en/products/ecs-2520mv-250-cn-tr/ecs-international
footprint Crystal 2.5x2mm
pins: 1 TRI-STATE, 2 GND, 3 OUTPUT, 4 VDD

## DP83867IRRGZR
designator DP83867IRRGZR?
Mfr_Name: Texas Instruments; PartNumber: DP83867IRRGZR; Alternate_PartNumber: DP83867IRRGZT; CompType: IC; TYPE: TYPE; RefDes: RefDes; Application_BuildNumber: *; PackageReference: RGZ0048B; MountType: SMT; RoHS: Y; Manufacturer: Texas Instruments
footprint DP83867IRRGZR
pins: 1 TD_P_A, 2 TD_M_A, 3 VDDA2P5, 4 TD_P_B, 5 TD_M_B, 6 VDD1P0, 7 TD_P_C, 8 TD_M_C, 9 VDDA2P5, 10 TD_P_D, 11 TD_M_D, 12 RBIAS, 13 VDDA1P8, 14 X_O, 15 X_I, 16 MDC, 17 MDIO, 18 CLK_OUT, 19 VDDIO, 20 JTAG_CLK, 21 JTAG_TDO, 22 JTAG_TMS, 23 JTAG_TDI, 24 VDD1P0, 25 TX_D3, 26 TX_D2, 27 TX_D1, 28 TX_D0, 29 GTX_CLK, 30 VDDIO, 31 VDD1P0, 32 RX_CLK, 33 RX_D0, 34 RX_D1, 35 RX_D2, 36 RX_D3, 37 TX_EN_TX_CTRL, 38 RX_DV_RX_CTRL, 39 GPIO_0, 40 GPIO_1, 41 VDDIO, 42 VDD1P0, 43 RESET_N, 44 INT_PWDN, 45 LED_2, 46 LED_1, 47 LED_0, 48 VDDA1P8, 49 GND

## ESD 6Channel
designator ESD?
TPD6E001RSFR; Mfr_Name: Texas Instruments; RefDes: RefDes; Type: Type
footprint ESD 6Channel UQFN
footprint ESD 6Channel WQFN (TPD6E001RSFR)
pins: 1 IO1, 2 IO2, 3 IO3, 4 IO4, 5 IO5, 6 IO6, GND, VCC

## EthernetTrasnformer
designator EthernetTrasnformer?  (value not drawn)
749020111A; Mfr_Name: Wurth Electronics; RefDes: RefDes; Type: Type
footprint Ethernet Transformer 749020111A_WRE-L (749020111A_WRE-L)
pins: 1 D0+, 2 D0, 3 D0-, 4 D1+, 5 D1, 6 D1-, 7 D2+, 8 D2, 9 D2-, 10 D3+, 11 D3, 12 D3-, 13 L3-, 14 L3, 15 L3+, 16 L2-, 17 L2, 18 L2+, 19 L1-, 20 L1, 21 L0-, 22 L1+, 23 L0 , 24 L0+

## Ferrite
designator F?  (value not drawn)
footprint Ferrite 1005(0402)
footprint Ferrite 1608(0603)
footprint Ferrite 2012(0805)
pins: 1, 2

## FRC 10PIN
designator FRC?
GateName_1: G$1; SymbolName_1: FRC_10PIN; LibraryName: TOTUDU; DeviceSetName: FRC_10PIN; Package: FRC_SOCKET_10PIN
footprint FRC_SOCKET_10PIN
pins: 1 (io), 2 (io), 3 (io), 4 (io), 5 (io), 6 (io), 7 (io), 8 (io), 9 (io), 10 (io)

## Inductor
designator L?
footprint Inductor 2012(0805)
footprint Inductor 5.2x5.2
footprint Inductor 2016(0806)
pins: 1, 2

## LDO TLV75709PDBVR
designator LDO?
Mfr_Name: Texas Instruments; TYPE: TYPE; RefDes: RefDes
footprint LDO TLV75709PDBVR
pins: 1 IN (power), 2 GND (power), 3 EN, 5 OUT (power)

## LED
designator gg, comment Ferrite  (value not drawn)
footprint LED 2012(0805)
pins: 1, 2

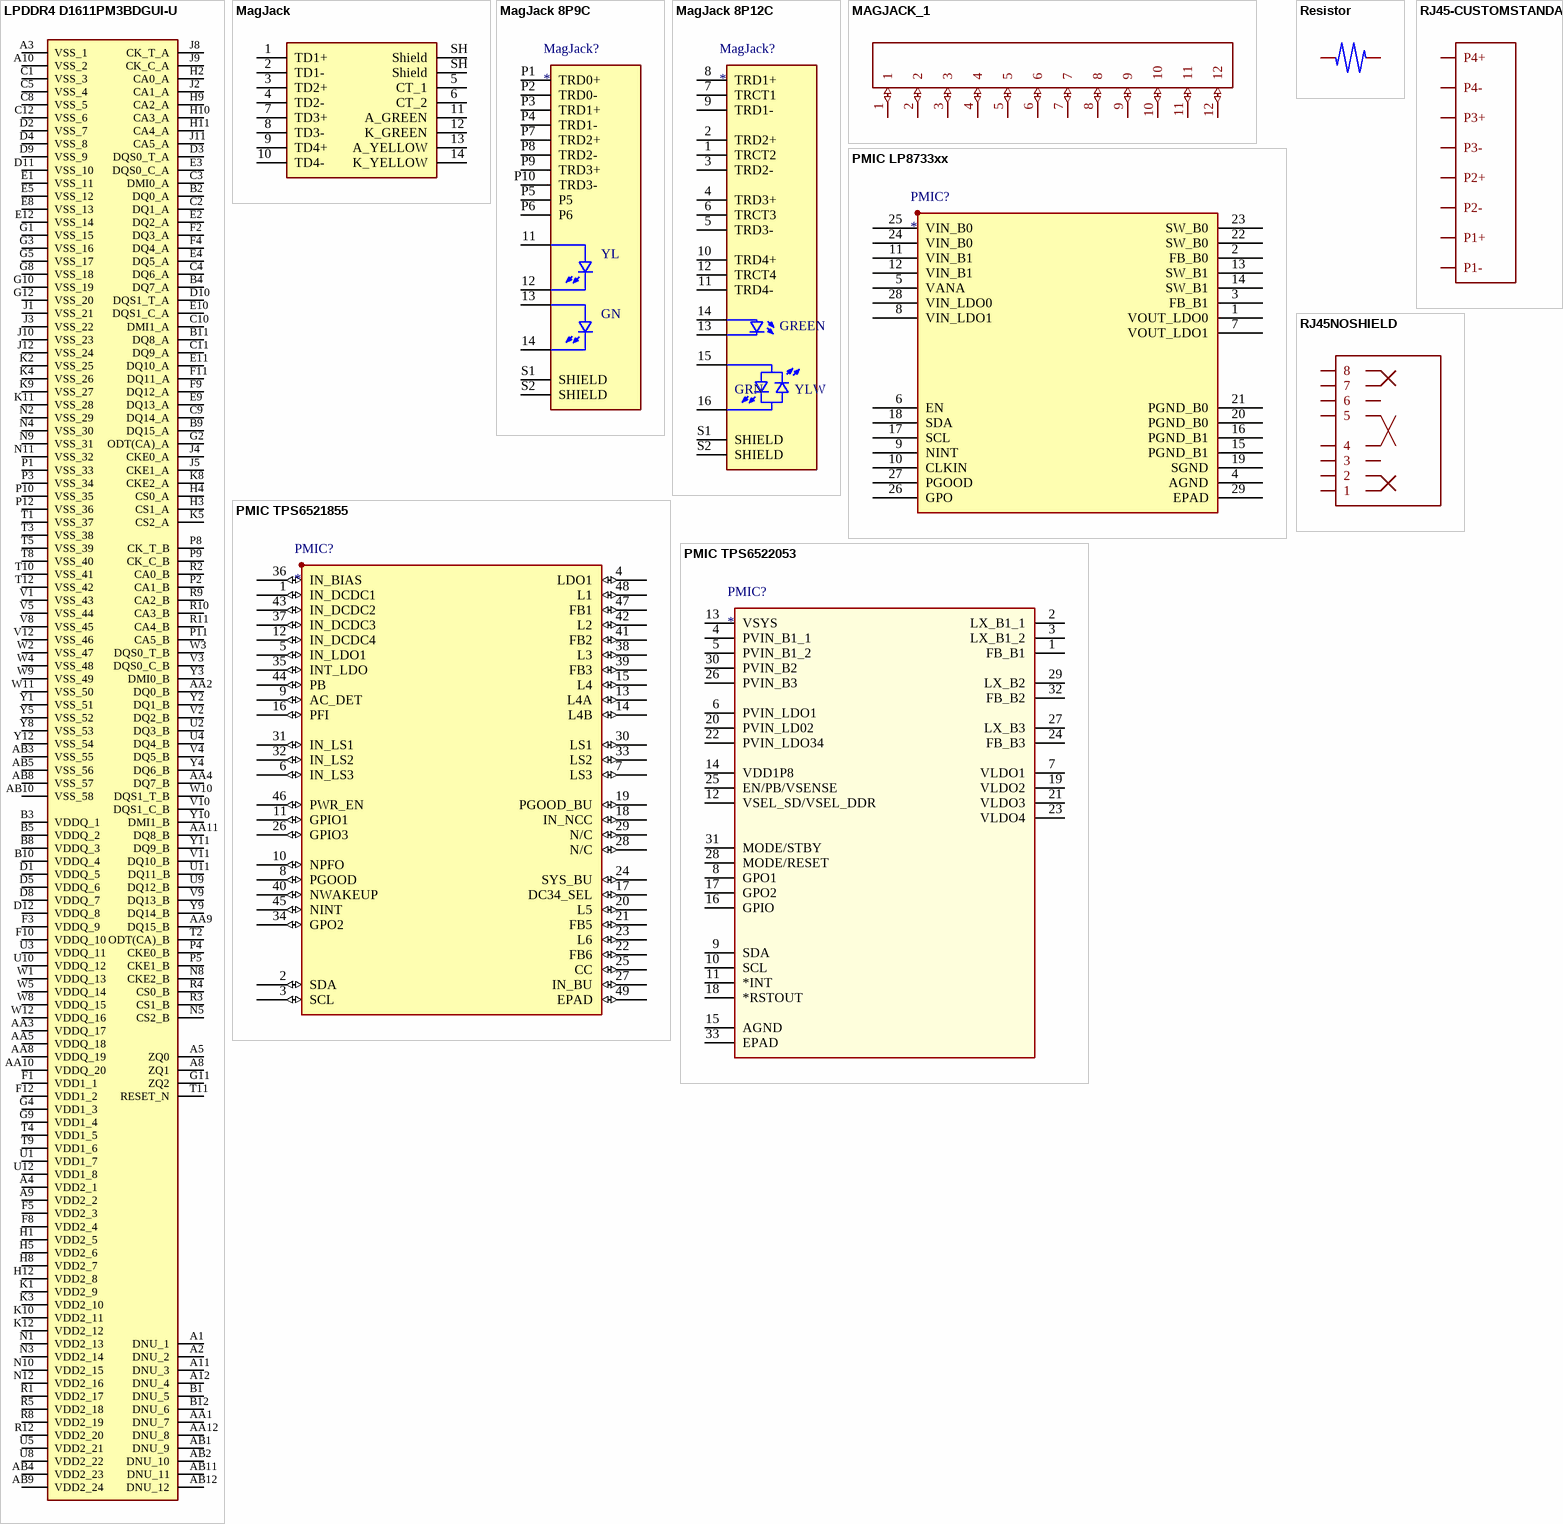
[diagram p2: symbols LPDDR4 D1611PM3BDGUI-U to RJ45NOSHIELD]

## LPDDR4 D1611PM3BDGUI-U
designator IC?, comment Die Density: 16Gbits  Organization  x 16 bits: 128M words x 16 bits x 8 banks  2 pieces of 16Gb (x16) in one package (For 32Gb case)  Row Address: R0 ~ R16  Column Address: C0 ~ C9  Package  200-ball FBGA  Power supply  VDD1 = 1.8V (1.70V to 1.95V) ,  VDD2, VDDCA and VDDQ = 1.1V (1.06V to 1.17V)  Data rate:  3733Mbps max. Backward compatible  Eight internal banks per channel for concurrent operation  Burst lengths (BL): 16, 32 and on-the-fly - On the fly mode is enabled by   Source:  Datasheet  (value not drawn)
MANUFACTURER_NAME: Kingston Technology; MANUFACTURER_PART_NUMBER: D1611PM3BDGUI-U; GateName_1: G$1; SymbolName_1: LPDDR4_D1611PM3BDGUI-U; LibraryName: TOTUDU; DeviceSetName: LPDDR4_D1611PM3BDGUI-U; Package: BGA200C65P12X22_1000X1450X80; HEIGHT: 0.8mm
footprint LPDDR4
pins: A1 DNU_1, A2 DNU_2, A3 VSS_1, A4 VDD2_1, A5 ZQ0, A8 ZQ1, A9 VDD2_2, A10 VSS_2, A11 DNU_3, A12 DNU_4, AA1 DNU_7, AA2 DQ0_B, AA3 VDDQ_17, AA4 DQ7_B, AA5 VDDQ_18, AA8 VDDQ_19, AA9 DQ15_B, AA10 VDDQ_20, AA11 DQ8_B, AA12 DNU_8, AB1 DNU_9, AB2 DNU_10, AB3 VSS_55, AB4 VDD2_23, AB5 VSS_56, AB8 VSS_57, AB9 VDD2_24, AB10 VSS_58, AB11 DNU_11, AB12 DNU_12, B1 DNU_5, B2 DQ0_A, B3 VDDQ_1, B4 DQ7_A, B5 VDDQ_2, B8 VDDQ_3, B9 DQ15_A, B10 VDDQ_4, B11 DQ8_A, B12 DNU_6, C1 VSS_3, C2 DQ1_A, C3 DMI0_A, C4 DQ6_A, C5 VSS_4, C8 VSS_5, C9 DQ14_A, C10 DMI1_A, C11 DQ9_A, C12 VSS_6, D1 VDDQ_5, D2 VSS_7, D3 DQS0_T_A, D4 VSS_8, D5 VDDQ_6, D8 VDDQ_7, D9 VSS_9, D10 DQS1_T_A, D11 VSS_10, D12 VDDQ_8, E1 VSS_11, E2 DQ2_A, E3 DQS0_C_A, E4 DQ5_A, E5 VSS_12, E8 VSS_13, E9 DQ13_A, E10 DQS1_C_A, E11 DQ10_A, E12 VSS_14, F1 VDD1_1, F2 DQ3_A, F3 VDDQ_9, F4 DQ4_A, F5 VDD2_3, F8 VDD2_4, F9 DQ12_A, F10 VDDQ_10, F11 DQ11_A, F12 VDD1_2, G1 VSS_15, G2 ODT(CA)_A, G3 VSS_16, G4 VDD1_3, G5 VSS_17, G8 VSS_18, G9 VDD1_4, G10 VSS_19, G11 ZQ2, G12 VSS_20, H1 VDD2_5, H2 CA0_A, H3 CS1_A, H4 CS0_A, H5 VDD2_6, H8 VDD2_7, H9 CA2_A, H10 CA3_A, H11 CA4_A, H12 VDD2_8, J1 VSS_21, J2 CA1_A, J3 VSS_22, J4 CKE0_A, J5 CKE1_A, J8 CK_T_A, J9 CK_C_A, J10 VSS_23, J11 CA5_A, J12 VSS_24, K1 VDD2_9, K2 VSS_25, K3 VDD2_10, K4 VSS_26, K5 CS2_A, K8 CKE2_A, K9 VSS_27, K10 VDD2_11, K11 VSS_28, K12 VDD2_12, N1 VDD2_13, N2 VSS_29, N3 VDD2_14, N4 VSS_30, N5 CS2_B, N8 CKE2_B, N9 VSS_31, N10 VDD2_15, N11 VSS_32, N12 VDD2_16, P1 VSS_33, P2 CA1_B, P3 VSS_34, P4 CKE0_B, P5 CKE1_B, P8 CK_T_B, P9 CK_C_B, P10 VSS_35, P11 CA5_B, P12 VSS_36, R1 VDD2_17, R2 CA0_B, R3 CS1_B, R4 CS0_B, R5 VDD2_18, R8 VDD2_19, R9 CA2_B, R10 CA3_B, R11 CA4_B, R12 VDD2_20, T1 VSS_37, T2 ODT(CA)_B, T3 VSS_38, T4 VDD1_5, T5 VSS_39, T8 VSS_40, T9 VDD1_6, T10 VSS_41, T11 RESET_N, T12 VSS_42, U1 VDD1_7, U2 DQ3_B, U3 VDDQ_11, U4 DQ4_B, U5 VDD2_21, U8 VDD2_22, U9 DQ12_B, U10 VDDQ_12, U11 DQ11_B, U12 VDD1_8, V1 VSS_43, V2 DQ2_B, V3 DQS0_C_B, V4 DQ5_B, V5 VSS_44, V8 VSS_45, V9 DQ13_B, V10 DQS1_C_B, V11 DQ10_B, V12 VSS_46, W1 VDDQ_13, W2 VSS_47, W3 DQS0_T_B, W4 VSS_48, W5 VDDQ_14, W8 VDDQ_15, W9 VSS_49, W10 DQS1_T_B, W11 VSS_50, W12 VDDQ_16, Y1 VSS_51, Y2 DQ1_B, Y3 DMI0_B, Y4 DQ6_B, Y5 VSS_52, Y8 VSS_53, Y9 DQ14_B, Y10 DMI1_B, Y11 DQ9_B, Y12 VSS_54

## MagJack
designator Jack?
ARJM11C7-502-AB-ER2-T; Manufacturer_Name: ABRACON; Datasheet Link: https://abracon.com/Magnetics/ARJM11.pdf; Height: 13.7mm; Manufacturer_Part_Number: ARJM11C7-502-AB-ER2-T; Mouser Part Number: 815-RJM11C7502ABER2T; Mouser Price/Stock: https://www.mouser.co.uk/ProductDetail/ABRACON/ARJM11C7-502-AB-ER2-T?qs=YCa%2FAAYMW01Li4L1TO4qtw%3D%3D; Arrow Part Number: ARJM11C7-502-AB-ER2-T; Arrow Price/Stock: https://www.arrow.com/en/products/arjm11c7-502-ab-er2-t/abracon?utm_currency=USD&region=nac
footprint ARJM11C7502ABER2T
pins: 1 TD1+, 2 TD1-, 3 TD2+, 4 TD2-, 5 CT_1, 6 CT_2, 7 TD3+, 8 TD3-, 9 TD4+, 10 TD4-, 11 A_GREEN, 12 K_GREEN, 13 A_YELLOW, 14 K_YELLOW, SH Shield, SH Shield

## MagJack 8P9C
designator MagJack?
CRJ009-ML4-TH; MF: {'manufacturer': u'CUI'}; Price: None; MP: CRJ009-ML4-TH; Package: None; Availability: Unavailable; Value: *
footprint MagJack 8P9C (CRJ009-ML4-TH)
pins: 11, 12, 13, 14, P1 TRD0+, P2 TRD0-, P3 TRD1+, P4 TRD1-, P5, P6, P7 TRD2+, P8 TRD2-, P9 TRD3+, P10 TRD3-, S1 SHIELD, S2 SHIELD
text: YL; GN

## MagJack 8P12C
designator MagJack?
BEL L8BJ-1K1T-KDE; Package: None; Price: None; Value: *; MP: L8BJ-1K1T-KDE; Availability: Unavailable
footprint MagJack 8P12C (BEL L8BJ-1K1T-KDE)
pins: 1 TRCT2, 2 TRD2+, 3 TRD2-, 4 TRD3+, 5 TRD3-, 6 TRCT3, 7 TRCT1, 8 TRD1+, 9 TRD1-, 10 TRD4+, 11 TRD4-, 12 TRCT4, 13, 14, 15, 16, S1 SHIELD, S2 SHIELD
text: GREEN; GRN; YLW

## MAGJACK_1
designator ?
GateName_1: G$1; SymbolName_1: MAGJACK; LibraryName: TOTUDU; DeviceSetName: MAGJACK; Package: MAGJACK
footprint MAGJACK
pins: 1 (io), 2 (io), 3 (io), 4 (io), 5 (io), 6 (io), 7 (io), 8 (io), 9 (io), 10 (io), 11 (io), 12 (io)

## PMIC LP8733xx
designator PMIC?
Mfr_Name: Texas Instruments; RefDes: RefDes; Type: Type
footprint PMIC LP8733xx
pins: 1 VOUT_LDO0, 2 FB_B0, 3 FB_B1, 4 AGND, 5 VANA, 6 EN, 7 VOUT_LDO1, 8 VIN_LDO1, 9 NINT, 10 CLKIN, 11 VIN_B1, 12 VIN_B1, 13 SW_B1, 14 SW_B1, 15 PGND_B1, 16 PGND_B1, 17 SCL, 18 SDA, 19 SGND, 20 PGND_B0, 21 PGND_B0, 22 SW_B0, 23 SW_B0, 24 VIN_B0, 25 VIN_B0, 26 GPO, 27 PGOOD, 28 VIN_LDO0, 29 EPAD

## PMIC TPS6521855
designator PMIC?
Mfr_Name: Texas Instruments; Type: Power Management; RefDes: RefDes
footprint PMIC TPS6521855
pins: 1 IN_DCDC1 (io), 2 SDA (io), 3 SCL (io), 4 LDO1 (io), 5 IN_LDO1 (io), 6 IN_LS3 (io), 7 LS3 (io), 8 PGOOD (io), 9 AC_DET (io), 10 NPFO (io), 11 GPIO1 (io), 12 IN_DCDC4 (io), 13 L4A (io), 14 L4B (io), 15 L4 (io), 16 PFI (io), 17 DC34_SEL (io), 18 IN_NCC (io), 19 PGOOD_BU (io), 20 L5 (io), 21 FB5 (io), 22 FB6 (io), 23 L6 (io), 24 SYS_BU (io), 25 CC (io), 26 GPIO3 (io), 27 IN_BU (io), 28 N/C (io), 29 N/C (io), 30 LS1 (io), 31 IN_LS1 (io), 32 IN_LS2 (io), 33 LS2 (io), 34 GPO2 (io), 35 INT_LDO (io), 36 IN_BIAS (io), 37 IN_DCDC3 (io), 38 L3 (io), 39 FB3 (io), 40 NWAKEUP (io), 41 FB2 (io), 42 L2 (io), 43 IN_DCDC2 (io), 44 PB (io), 45 NINT (io), 46 PWR_EN (io), 47 FB1 (io), 48 L1 (io), 49 EPAD (io)

## PMIC TPS6522053
designator PMIC?
Mfr_Name: Texas Instruments; Type: Power Management; RefDes: RefDes
footprint PMIC TPS6522053
pins: 1 FB_B1, 2 LX_B1_1, 3 LX_B1_2, 4 PVIN_B1_1, 5 PVIN_B1_2, 6 PVIN_LDO1, 7 VLDO1, 8 GPO1, 9 SDA, 10 SCL, 11 *INT, 12 VSEL_SD/VSEL_DDR, 13 VSYS, 14 VDD1P8, 15 AGND, 16 GPIO, 17 GPO2, 18 *RSTOUT, 19 VLDO2, 20 PVIN_LD02, 21 VLDO3, 22 PVIN_LDO34, 23 VLDO4, 24 FB_B3, 25 EN/PB/VSENSE, 26 PVIN_B3, 27 LX_B3, 28 MODE/RESET, 29 LX_B2, 30 PVIN_B2, 31 MODE/STBY, 32 FB_B2, 33 EPAD

## Resistor
designator R?  (value not drawn)
footprint Resistor 2012(0805)
footprint Resistor 1608(0603)
footprint Resistor 1005(0402)
pins: 1, 2

## RJ45-CUSTOMSTANDARD
designator J?, comment RJ45 Jack - 8 pin Simple RJ45, 8-pin connection. Commonly used for Cat5, Cat5e, and Cat6 Ethernet cables.    Here is the connector we sell at SparkFun: RJ45 8-Pin Connector (PRT-00643)  Datasheet      It is used on this SparkFun product: SparkFun RJ45 Breakout (BOB-00716)        Note, you may also be interested in the "MAGJACK" version of this. It is basically a RJ45 connector, but also has some status LEDs built into the connector housing. You can check that out in this library at the device named "MAGJACK.dev" and see these products online: RJ45 Ethernet MagJack-Compatible (PRT-08534)  SparkFun RJ45 MagJack Breakout (BOB-13021)  (value not drawn)
GateName_1: G$1; SymbolName_1: RJ45-CUSTOM; DeviceName: STANDARD; LibraryName: TOTUDU; DeviceSetName: RJ45-CUSTOM; Package: RJ45-STANDARD
footprint RJ45-STANDARD
pins: 1 P1-, 2 P1+, 3 P2-, 4 P2+, 5 P3-, 6 P3+, 7 P4-, 8 P4+

## RJ45NOSHIELD
designator J?, comment RJ45 Jack - 8 pin Simple RJ45, 8-pin connection. Commonly used for Cat5, Cat5e, and Cat6 Ethernet cables.    Here is the connector we sell at SparkFun: RJ45 8-Pin Connector (PRT-00643)  Datasheet      It is used on this SparkFun product: SparkFun RJ45 Breakout (BOB-00716)        Note, you may also be interested in the "MAGJACK" version of this. It is basically a RJ45 connector, but also has some status LEDs built into the connector housing. You can check that out in this library at the device named "MAGJACK.dev" and see these products online: RJ45 Ethernet MagJack-Compatible (PRT-08534)  SparkFun RJ45 MagJack Breakout (BOB-13021)  (value not drawn)
GateName_1: JP1; DeviceName: NOSHIELD; SymbolName_1: RJ45; LibraryName: TOTUDU; DeviceSetName: RJ45; Package: RJ45-NOSHIELD
footprint RJ45-NOSHIELD
pins: 1, 2, 3, 4, 5, 6, 7, 8

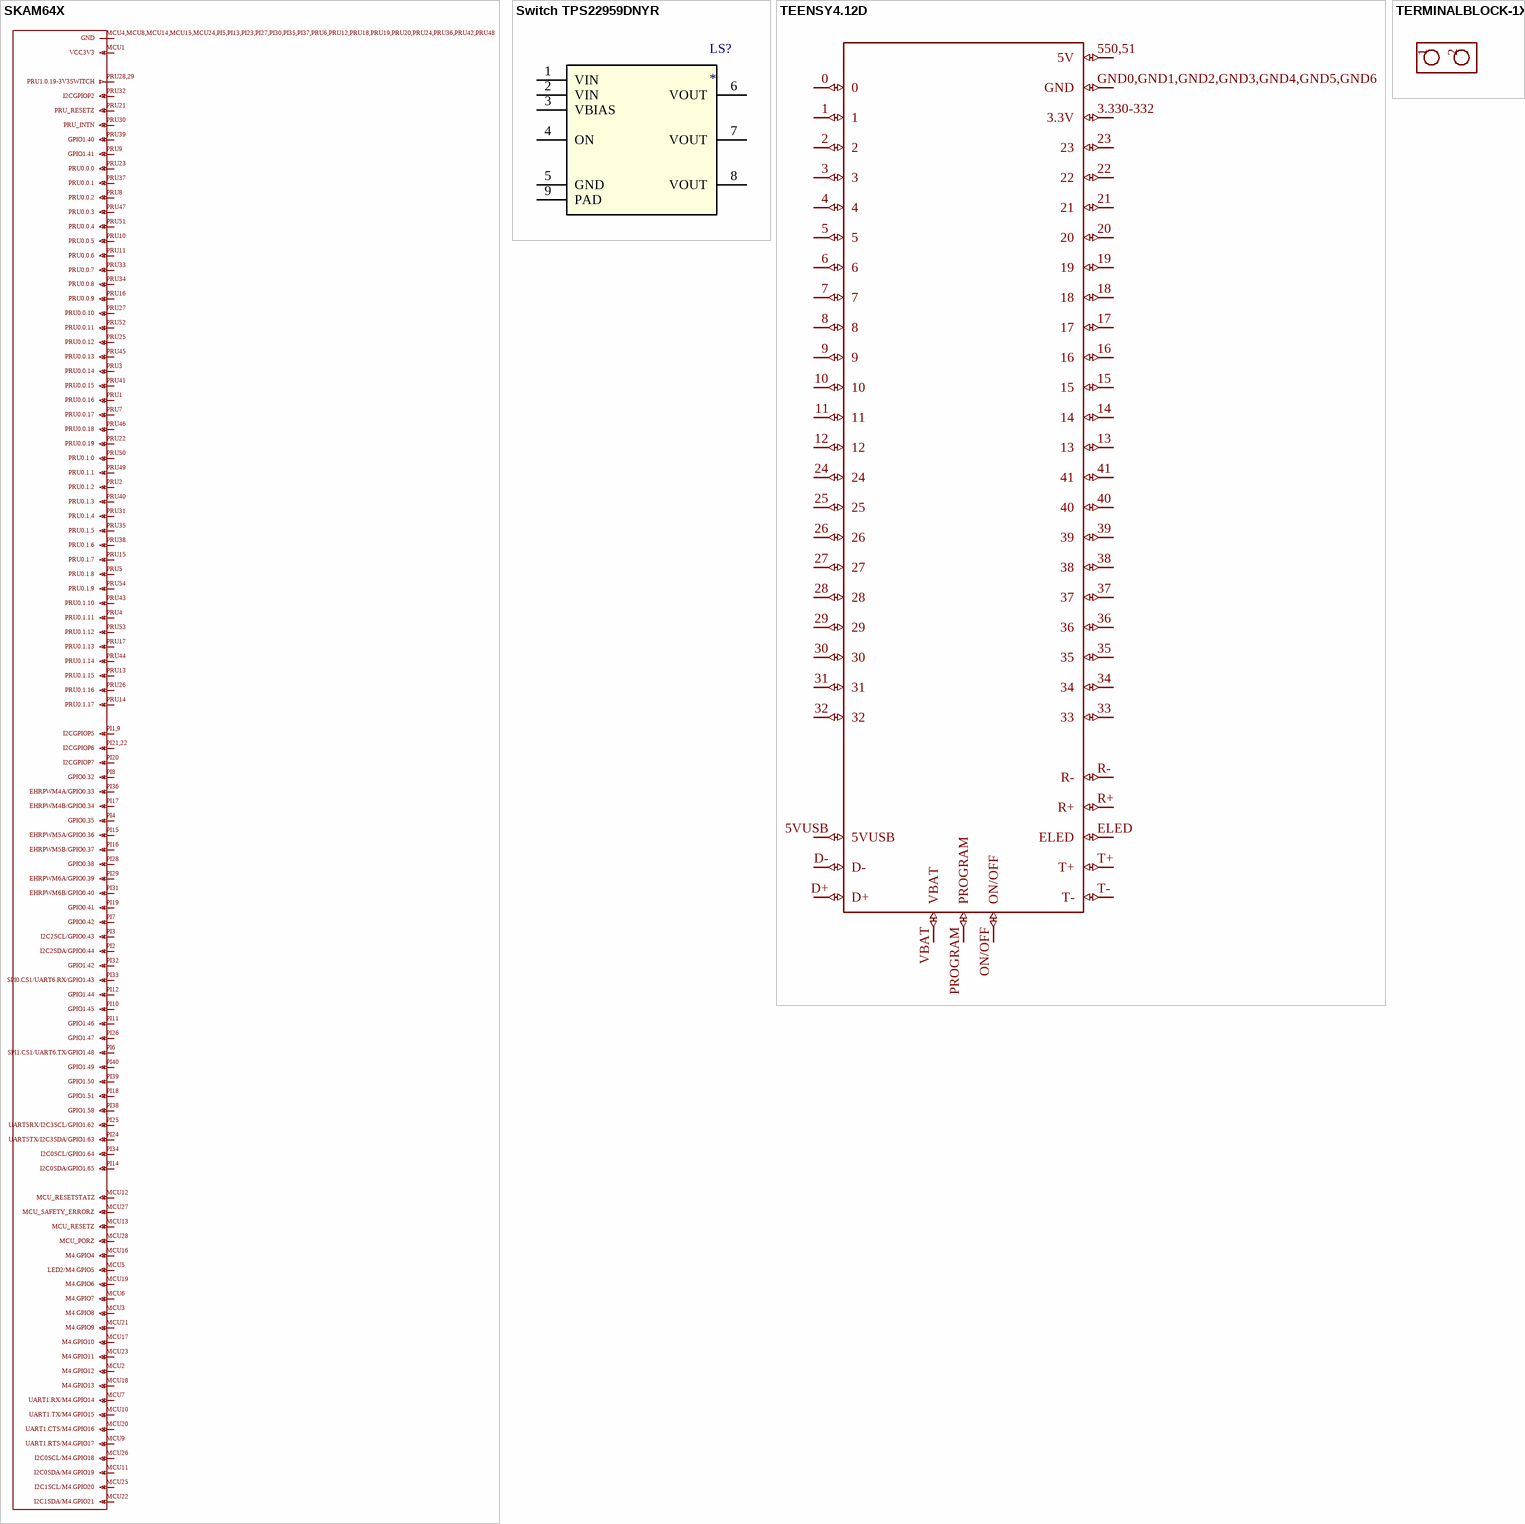
[diagram p3: symbols SKAM64X to TERMINALBLOCK-1X2]

## SKAM64X
designator ?
GateName_1: G$1; SymbolName_1: SKAM64X; LibraryName: TOTUDU; DeviceSetName: SKAM64X; Package: SKAM64X
footprint SKAM64X
pins: MCU1 VCC3V3 (io), MCU2 M4.GPIO12 (io), MCU3 M4.GPIO8 (io), MCU4,MCU8,MCU14,MCU15,MCU24,PI5,PI13,PI23,PI27,PI30,PI35,PI37,PRU6,PRU12,PRU18,PRU19,PRU20,PRU24,PRU36,PRU42,PRU48 GND (power), MCU5 LED2/M4.GPIO5 (io), MCU6 M4.GPIO7 (io), MCU7 UART1.RX/M4.GPIO14 (io), MCU9 UART1.RTS/M4.GPIO17 (io), MCU10 UART1.TX/M4.GPIO15 (io), MCU11 I2C0SDA/M4.GPIO19 (io), MCU12 MCU_RESETSTATZ (io), MCU13 MCU_RESETZ (io), MCU16 M4.GPIO4 (io), MCU17 M4.GPIO10 (io), MCU18 M4.GPIO13 (io), MCU19 M4.GPIO6 (io), MCU20 UART1.CTS/M4.GPIO16 (io), MCU21 M4.GPIO9 (io), MCU22 I2C1SDA/M4.GPIO21 (io), MCU23 M4.GPIO11 (io), MCU25 I2C1SCL/M4.GPIO20 (io), MCU26 I2C0SCL/M4.GPIO18 (io), MCU27 MCU_SAFETY_ERRORZ (io), MCU28 MCU_PORZ (io), PI1,9 I2CGPIOP5 (io), PI2 I2C2SDA/GPIO0.44 (io), PI3 I2C2SCL/GPIO0.43 (io), PI4 GPIO0.35 (io), PI6 SPI1.CS1/UART6.TX/GPIO1.48 (io), PI7 GPIO0.42 (io), PI8 GPIO0.32 (io), PI10 GPIO1.45 (io), PI11 GPIO1.46 (io), PI12 GPIO1.44 (io), PI14 I2C0SDA/GPIO1.65 (io), PI15 EHRPWM5A/GPIO0.36 (io), PI16 EHRPWM5B/GPIO0.37 (io), PI17 EHRPWM4B/GPIO0.34 (io), PI18 GPIO1.51 (io), PI19 GPIO0.41 (io), PI20 I2CGPIOP7 (io), PI21,22 I2CGPIOP6 (io), PI24 UART5TX/I2C3SDA/GPIO1.63 (io), PI25 UART5RX/I2C3SCL/GPIO1.62 (io), PI26 GPIO1.47 (io), PI28 GPIO0.38 (io), PI29 EHRPWM6A/GPIO0.39 (io), PI31 EHRPWM6B/GPIO0.40 (io), PI32 GPIO1.42 (io), PI33 SPI0.CS1/UART6.RX/GPIO1.43 (io), PI34 I2C0SCL/GPIO1.64 (io), PI36 EHRPWM4A/GPIO0.33 (io), PI38 GPIO1.58 (io), PI39 GPIO1.50 (io), PI40 GPIO1.49 (io), PRU1 PRU0.0.16 (io), PRU2 PRU0.1.2 (io), PRU3 PRU0.0.14 (io), PRU4 PRU0.1.11 (io), PRU5 PRU0.1.8 (io), PRU7 PRU0.0.17 (io), PRU8 PRU0.0.2 (io), PRU9 GPIO1.41 (io), PRU10 PRU0.0.5 (io), PRU11 PRU0.0.6 (io), PRU13 PRU0.1.15 (io), PRU14 PRU0.1.17 (io), PRU15 PRU0.1.7 (io), PRU16 PRU0.0.9 (io), PRU17 PRU0.1.13 (io), PRU21 PRU_RESETZ (io), PRU22 PRU0.0.19 (io), PRU23 PRU0.0.0 (io), PRU25 PRU0.0.12 (io), PRU26 PRU0.1.16 (io), PRU27 PRU0.0.10 (io), PRU28,29 PRU1.0.19-3V3SWITCH (out), PRU30 PRU_INTN (io), PRU31 PRU0.1.4 (io), PRU32 I2CGPIOP2 (io), PRU33 PRU0.0.7 (io), PRU34 PRU0.0.8 (io), PRU35 PRU0.1.5 (io), PRU37 PRU0.0.1 (io), PRU38 PRU0.1.6 (io), PRU39 GPIO1.40 (io), PRU40 PRU0.1.3 (io), PRU41 PRU0.0.15 (io), PRU43 PRU0.1.10 (io), PRU44 PRU0.1.14 (io), PRU45 PRU0.0.13 (io), PRU46 PRU0.0.18 (io), PRU47 PRU0.0.3 (io), PRU49 PRU0.1.1 (io), PRU50 PRU0.1.0 (io), PRU51 PRU0.0.4 (io), PRU52 PRU0.0.11 (io), PRU53 PRU0.1.12 (io), PRU54 PRU0.1.9 (io)

## Switch TPS22959DNYR
designator LS?
Mfr_Name: Texas Instruments; PartNumber: TPS22959DNY; CompType: IC; TYPE: TYPE; RefDes: RefDes; PackageReference: DNY0008A; MountType: SMT; RoHS: Y; Manufacturer: Texas Instruments
footprint Switch TPS22959DNYR
pins: 1 VIN (power), 2 VIN (power), 3 VBIAS (power), 4 ON, 5 GND (power), 6 VOUT (power), 7 VOUT (power), 8 VOUT (power), 9 PAD (power)

## TEENSY4.12D
designator ?
GateName_1: G$1; SymbolName_1: TEENSY4.1; DeviceName: 2D; LibraryName: TOTUDU; DeviceSetName: TEENSY4.1; Package: TEENSY4.12D
footprint TEENSY4.12D
pins: 0 (io), 1 (io), 2 (io), 3 (io), 3.330-332 3.3V (io), 4 (io), 5 (io), 5VUSB (io), 6 (io), 7 (io), 8 (io), 9 (io), 10 (io), 11 (io), 12 (io), 13 (io), 14 (io), 15 (io), 16 (io), 17 (io), 18 (io), 19 (io), 20 (io), 21 (io), 22 (io), 23 (io), 24 (io), 25 (io), 26 (io), 27 (io), 28 (io), 29 (io), 30 (io), 31 (io), 32 (io), 33 (io), 34 (io), 35 (io), 36 (io), 37 (io), 38 (io), 39 (io), 40 (io), 41 (io), 550,51 5V (io), D+ (io), D- (io), ELED (io), GND0,GND1,GND2,GND3,GND4,GND5,GND6 GND (io), ON/OFF (io), PROGRAM (io), R+ (io), R- (io), T+ (io), T- (io), VBAT (io)

## TERMINALBLOCK-1X2
designator ?
GateName_1: G$1; SymbolName_1: TERMINALBLOCK1X2; DeviceSetName: TERMINALBLOCK-1X2; LibraryName: TOTUDU; Package: SCREWTERMINAL1X2
footprint SCREWTERMINAL1X2
pins: 1, 2